# Altium footprint library coil.PcbLib: 3 footprints
Each footprint in its own frame and in the unit in brackets; x right, y up, seen from the top. Pads: shape width x height; smd on the part's side, far side on the other; paste and mask are expansions set on the pad; w line width, h text height; cw(c..) or ccw(c..) is an arc to the next point about the centre after c.
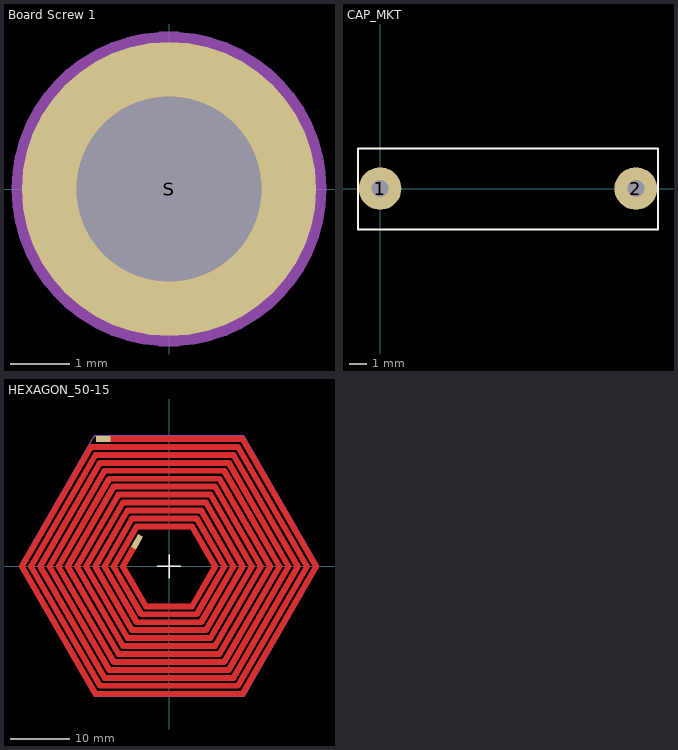
[diagram p0: the footprints below, top view; thin cyan lines are the x and y axes]

## Board Screw 1 [mm]
pads (1):
  round 5 hole 3.15 mask+0.1: S(0,0)
Top Courtyard:
  circle w0.254: c0,0 r2.506
Bottom Courtyard:
  circle w0.254: c0,0 r2.55
Top 3D Body:
  circle w0.254: c0,0 r2.484
3D body "User Library-User Library-4-40 x _125 sems.STEP": height 2.34, standoff -3, extent -2.667,-2.642 2.692,2.718

## CAP_MKT [mm]
pads (2):
  round 2.5 hole 1: 1(0,0) 2(15,0)
Top Overlay:
  lines w0.127: -1.295,-2.401 16.3,-2.401 16.3,2.35 -1.295,2.35 -1.295,-2.401

## HEXAGON_50-15 [mm]
pads (2):
  rect 2.5x1 smd mask+0.102: 1(-11.176,21.651)
  rect 2.5x1 smd rot 60 mask+0.102: 2(-5.44,4.179)
Top Layer:
  lines w1: -11.176,21.651 12.5,21.651 25,0 12.5,-21.651 -12.5,-21.651 -25,0 -13.279,20.301 11.721,20.301 23.441,0 11.721,-20.301 -11.721,-20.301 -23.441,0 -12.5,18.951 10.941,18.951 21.882,0 10.941,-18.951 -10.941,-18.951 -21.882,0 -11.721,17.601 10.162,17.601 20.323,0 10.162,-17.601 -10.162,-17.601 -20.323,0 -10.941,16.251 9.382,16.251 18.765,0 9.382,-16.251 -9.382,-16.251 -18.765,0 -10.162,14.901 8.603,14.901 17.206,0 8.603,-14.901 -8.603,-14.901 -17.206,0 -9.382,13.551 7.823,13.551 15.647,0 7.823,-13.551 -7.823,-13.551 -15.647,0 -8.603,12.201 7.044,12.201 14.088,0 7.044,-12.201 -7.044,-12.201 -14.088,0 -7.823,10.851 6.265,10.851 12.529,0 6.265,-10.851 -6.265,-10.851 -12.529,0 -7.044,9.501 5.485,9.501 10.97,0 5.485,-9.501 -5.485,-9.501 -10.97,0 -6.265,8.151 4.706,8.151 9.412,0 4.706,-8.151 -4.706,-8.151 -9.412,0 -5.485,6.801 3.926,6.801 7.853,0 3.926,-6.801 -3.926,-6.801 -7.853,0 -5.44,4.179
Top Overlay:
  lines w0.254: -2,0 2,0 ; 0,-2 0,2
Top Courtyard:
  lines w0.254: -25.5,0 -12.7,22.2 12.7,22.2 25.5,0 12.8,-22.1 -12.7,-22.1 -25.5,0